# Altium schematic symbol library Schlib1.SchLib: 3 symbols
Pins are listed as number, name and electrical type; pins without a type are passive.

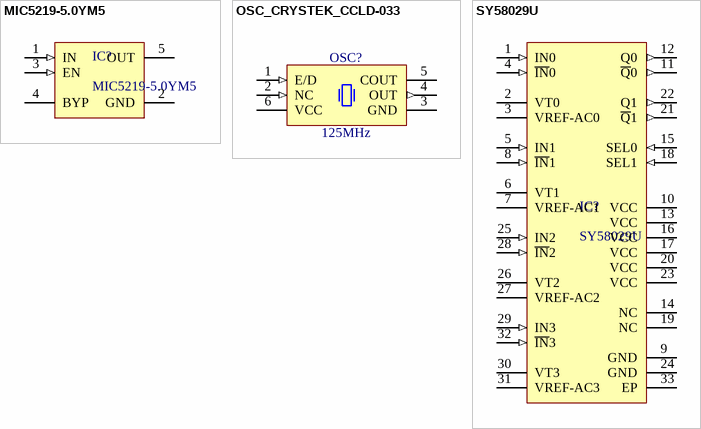
[diagram p0: symbols MIC5219-5.0YM5 to SY58029U]

## MIC5219-5.0YM5
designator IC?
500mA-Peak Output LDO Regulator 5.0V; Manufacturer: Microchip; Manufacturer Part Number: MIC5219-5.0YM5; Device: MIC5219-5.0YM5
footprint SOT95P280X145-5N (SOT, 0.95mm pitch; 5 pin, 1.60mm W X 2.90mm L X 1.45mm H body, IPC Medium Density)
pins: 1 IN (in), 2 GND, 3 EN (in), 4 BYP, 5 OUT (power)

## OSC_CRYSTEK_CCLD-033
designator OSC?, comment 125MHz
3.3V, ± 50ppm, 0°C to +70°C, Surface Mount LVDS Clock Oscillator (CCLD-033 Series); Part Number: OSC_125MHZ_CRYSTEK_CCLD-033-50-125.000; Manufacturer: CRYSTEK CRYSTAL; Manufacturer Part Number: CCLD-033-50-125.000; PressFit: No; Bonding: No; Component Kind: Standard; Component Type: Standard; Footprint: OSC_CRYSTEK_CCLD-033; PackageDescription: Oscillator, Side Concave, 2.54mm Pitch, 6 Pins, 5.00mm L X 7.00mm W X 1.80mm H, CCLD-033 Series; Value: 125MHz; Part Description: 3.3V, ± 50ppm, 0°C to +70°C, Surface Mount LVDS Clock Oscillator (CCLD-033 Series); Pin Count: 6; Mounted: Yes; Socket: No; SMD: Yes; Sense: No; ComponentHeight: 1.8mm; HelpURL: \\cern.ch\dfs\Applications\Altium\Datasheets\OSC_CRYSTEK_CCLD-033.pdf; Author: CERN DEM JLC; CreateDate: 23.02.2017; LatestRevisionDate: 23.02.2017
footprint OSC_CRYSTEK_CCLD-033
pins: 1 E/D (in), 2 NC (in), 3 GND (power), 4 OUT (out), 5 COUT, 6 VCC (power)

## SY58029U
designator IC?
ULTRA PRECISION DIFFERENTIAL LVPECL 4:1 MUX with 1:2 FANOUT and INTERNAL TERMINATION; Manufacturer: Microchip; Manufacturer Part Number: SY58029U; Device: SY58029U
footprint MLF-32 (32-PIN  MicroLeadFrame)
pins: 1 IN0 (in), 2 VT0 (power), 3 VREF-AC0 (power), 4 ~{IN}0 (in), 5 IN1 (in), 6 VT1 (power), 7 VREF-AC1 (power), 8 ~{IN}1 (in), 9 GND, 10 VCC (power), 11 ~{Q}0 (out), 12 Q0 (out), 13 VCC (power), 14 NC, 15 SEL0 (in), 16 VCC (power), 17 VCC (power), 18 SEL1 (in), 19 NC, 20 VCC (power), 21 ~{Q}1 (out), 22 Q1 (out), 23 VCC (power), 24 GND, 25 IN2 (in), 26 VT2 (power), 27 VREF-AC2 (power), 28 ~{IN}2 (in), 29 IN3 (in), 30 VT3 (power), 31 VREF-AC3 (power), 32 ~{IN}3 (in), 33 EP